# EAGLE library part RTC_DS1302 (library microbuilder)
DS1302 Trickle-Charge Timekeeping Chip
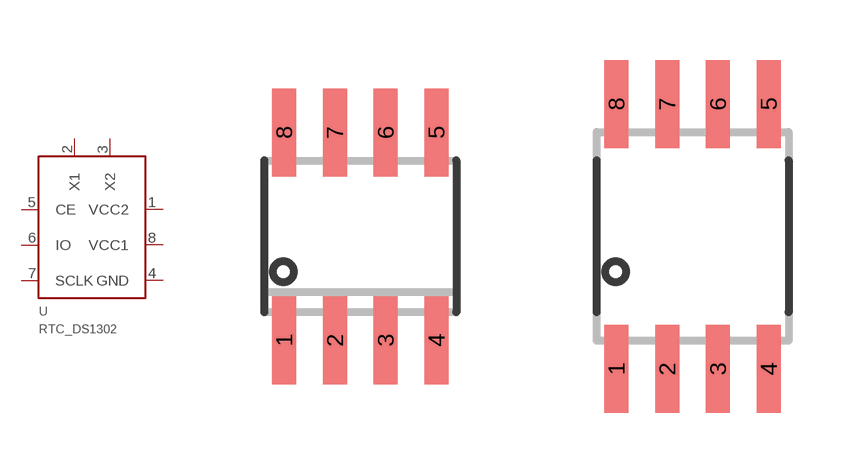
[diagram p139: symbol with the pads of SOIC8_150MIL; footprints SOIC8_150MIL, SOIC8_208MIL]

Designator prefix U

## RTC_DS1302150  [SOIC8_150MIL]
1  VCC2
2  X1
3  X2
4  GND
5  CE
6  IO
7  SCLK
8  VCC1

## RTC_DS1302208  [SOIC8_208MIL]
Pads as for SOIC8_150MIL

## Footprint SOIC8_150MIL (pad centres in mm)
Small Outline IC - 150mil Wide
smd 0.6 x 2.2: 1 -1.905,-2.6; 2 -0.635,-2.6; 3 0.635,-2.6; 4 1.905,-2.6; 5 1.905,2.6; 6 0.635,2.6; 7 -0.635,2.6; 8 -1.905,2.6

## Footprint SOIC8_208MIL (pad centres in mm)
Small Outline IC - 208mil Wide
smd 0.6 x 2.2: 1 -1.905,-3.315; 2 -0.635,-3.315; 3 0.635,-3.315; 4 1.905,-3.315; 5 1.905,3.315; 6 0.635,3.315; 7 -0.635,3.315; 8 -1.905,3.315